# EAGLE library part AR9331-MODULE (library BaseApp)
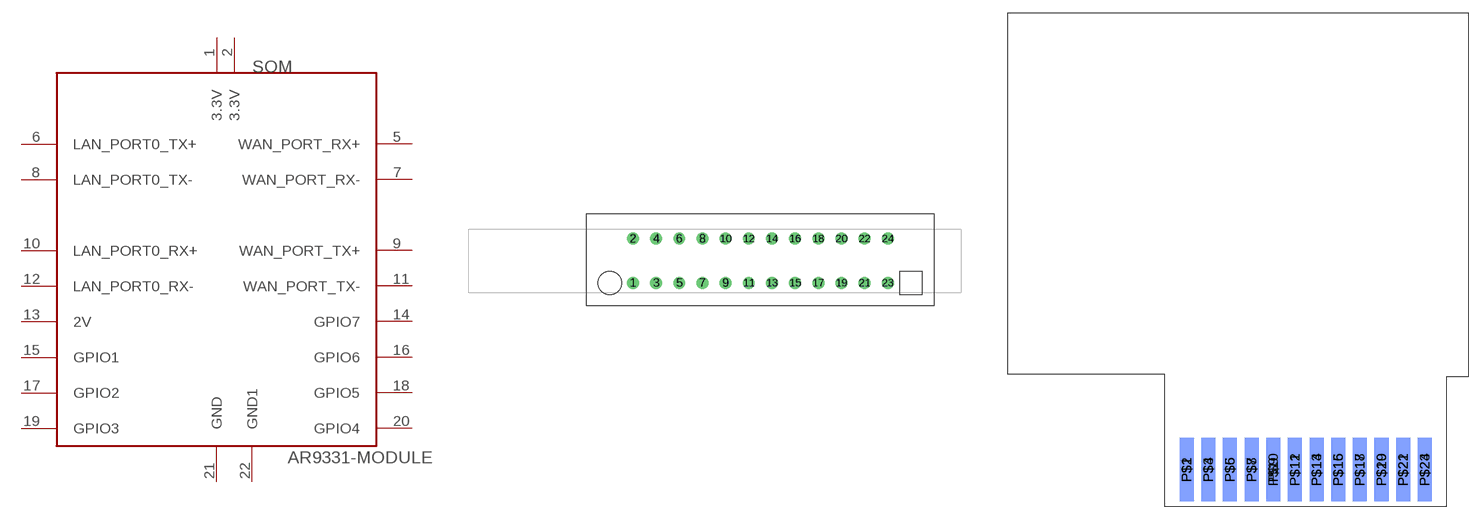
[diagram p147: symbol with the pads of GENERIC-AR9331-CARD_EDGE_CONN-2X12; footprints GENERIC-AR9331-CARD_EDGE_CONN-2X12, GENERIC-AR9331-MODULE-BREAKOUT]

Designator prefix SOM

## AR9331-MODULE (DIGIKEY: A113946-ND; PRICE_PER_UNIT: 1.1)  [GENERIC-AR9331-CARD_EDGE_CONN-2X12]
1  3.3V
2  3.3V
5  WAN_PORT_RX+
6  LAN_PORT0_TX+
7  WAN_PORT_RX-
8  LAN_PORT0_TX-
9  WAN_PORT_TX+
10  LAN_PORT0_RX+
11  WAN_PORT_TX-
12  LAN_PORT0_RX-
13  2V
14  GPIO7
15  GPIO1
16  GPIO6
17  GPIO2
18  GPIO5
19  GPIO3
20  GPIO4
21  GND
22  GND1

## AR9331-MODULE-BREAKOUT (DIGIKEY: No Part. Just PCB dimensions for module; PRICE_PER_UNIT: 0)  [GENERIC-AR9331-MODULE-BREAKOUT]
P$1  3.3V
P$2  3.3V
P$5  WAN_PORT_RX+
P$6  LAN_PORT0_TX+
P$7  WAN_PORT_RX-
P$8  LAN_PORT0_TX-
P$9  WAN_PORT_TX+
P$10  LAN_PORT0_RX+
P$11  WAN_PORT_TX-
P$12  LAN_PORT0_RX-
P$13  2V
P$14  GPIO7
P$15  GPIO1
P$16  GPIO6
P$17  GPIO2
P$18  GPIO5
P$19  GPIO3
P$20  GPIO4
P$21  GND
P$22  GND1

## Footprint GENERIC-AR9331-CARD_EDGE_CONN-2X12 (pad centres in mm)
drill 0.8: 1 -8.97,-2.426; 2 -8.97,2.426; 3 -6.43,-2.426; 4 -6.43,2.426; 5 -3.89,-2.426; 6 -3.89,2.426; 7 -1.35,-2.426; 8 -1.35,2.426; 9 1.19,-2.426; 10 1.19,2.426; 11 3.73,-2.426; 12 3.73,2.426; 13 6.27,-2.426; 14 6.27,2.426; 15 8.81,-2.426; 16 8.81,2.426; 17 11.35,-2.426; 18 11.35,2.426; 19 13.89,-2.426; 20 13.89,2.426; 21 16.43,-2.426; 22 16.43,2.426; 23 18.97,-2.426; 24 18.97,2.426

## Footprint GENERIC-AR9331-MODULE-BREAKOUT (pad centres in mm)
smd 1.651 x 7.493: P$1 -11.97,4.364; P$3 -9.43,4.364; P$5 -6.89,4.364; P$7 -4.35,4.364; P$9 -1.81,4.364; P$11 0.73,4.364; P$13 3.27,4.364; P$15 5.81,4.364; P$17 8.35,4.364; P$19 10.89,4.364; P$21 13.43,4.364; P$23 15.97,4.364
smd 1.651 x 7.493 bottom: P$2 -11.97,4.364; P$4 -9.43,4.364; P$6 -6.89,4.364; P$8 -4.35,4.364; P$10 -1.81,4.364; P$12 0.73,4.364; P$14 3.27,4.364; P$16 5.81,4.364; P$18 8.35,4.364; P$20 10.89,4.364; P$22 13.43,4.364; P$24 15.97,4.364